# Altium footprint library 2019-04-02_13-31-29.PcbLib: 3 footprints
Each footprint in its own frame and in the unit in brackets; x right, y up, seen from the top. Pads: shape width x height; smd on the part's side, far side on the other; paste and mask are expansions set on the pad; w line width, h text height; cw(c..) or ccw(c..) is an arc to the next point about the centre after c.
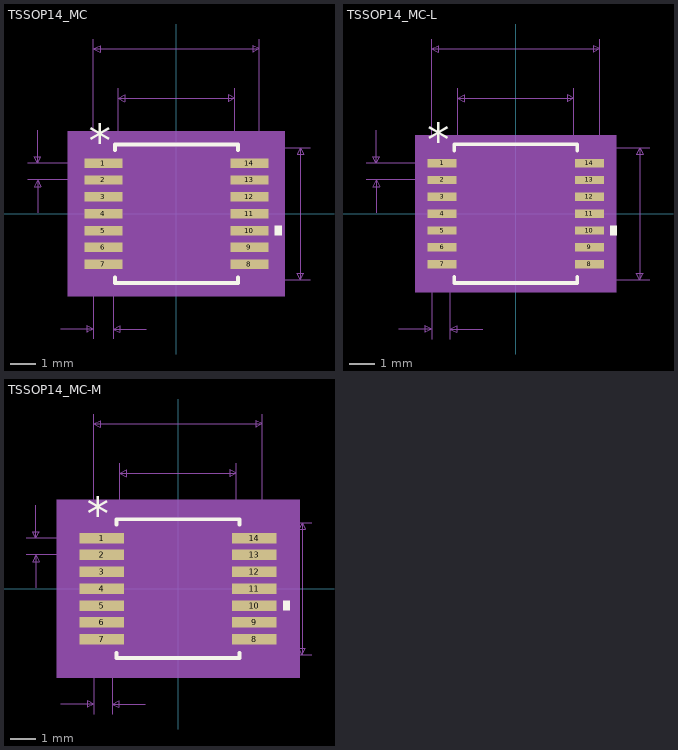
[diagram p0: the footprints below, top view; thin cyan lines are the x and y axes]

## TSSOP14_MC [mm]
pads (14):
  rect 1.462x0.365 smd paste+0 mask+0: 1(-2.819,1.95) 2(-2.819,1.3) 3(-2.819,0.65) 4(-2.819,0) 5(-2.819,-0.65) 6(-2.819,-1.3) 7(-2.819,-1.95) 8(2.819,-1.95) 9(2.819,-1.3) 10(2.819,-0.65) 11(2.819,0) 12(2.819,0.65) 13(2.819,1.3) 14(2.819,1.95)
Top Overlay:
  region: 3.804,-0.459 4.058,-0.459 4.058,-0.84 3.804,-0.84
  lines w0.152: -2.377,-2.465 -2.377,-2.677 2.377,-2.677 2.377,-2.465 ; -2.377,2.465 -2.377,2.677 2.377,2.677 2.377,2.465
  text "*" at -3.391,2.188 h1.27
Mechanical 5:
  region: 4.185,-3.185 -4.185,-3.185 -4.185,3.185 4.185,3.185
Mechanical 7:
  lines w0.025: -5.74,1.3 -2.819,1.3 ; -5.74,1.95 -2.819,1.95 ; -5.359,0.03 -5.359,1.3 ; -5.359,3.22 -5.359,1.95 ; -4.47,-4.455 -3.2,-4.455 ; -3.2,-4.836 -3.2,0 -3.2,6.741 ; -2.438,-4.836 -2.438,0 ; -2.25,0 -2.25,4.836 ; -1.168,-4.455 -2.438,-4.455 ; 0,-2.55 5.171,-2.55 ; 0,2.55 5.171,2.55 ; 2.25,0 2.25,4.836 ; 3.2,0 3.2,6.741 ; -5.359,1.3 -5.486,1.046 -5.232,1.046 -5.359,1.3 ; -5.359,1.95 -5.486,2.204 -5.232,2.204 -5.359,1.95 ; -3.2,-4.455 -3.454,-4.328 -3.454,-4.582 -3.2,-4.455 ; -3.2,6.36 3.2,6.36 ; -3.2,6.36 -2.946,6.487 -2.946,6.233 -3.2,6.36 ; -2.438,-4.455 -2.184,-4.328 -2.184,-4.582 -2.438,-4.455 ; -2.25,4.455 2.25,4.455 ; -2.25,4.455 -1.996,4.582 -1.996,4.328 -2.25,4.455 ; 2.25,4.455 1.996,4.582 1.996,4.328 2.25,4.455 ; 3.2,6.36 2.946,6.487 2.946,6.233 3.2,6.36 ; 4.79,-2.55 4.79,2.55 ; 4.79,-2.55 4.663,-2.296 4.917,-2.296 4.79,-2.55 ; 4.79,2.55 4.663,2.296 4.917,2.296 4.79,2.55
  text "Default Padstyle: r146_36" at -7.938,-7.63 h1.27
  text "Pin One Padstyle: r146_36" at -7.938,-9.154 h1.27
  text "Alt 1 Padstyle: b152_229h76" at -8.572,-13.726 h1.27
  text "Alt 2 Padstyle: b229_152h76" at -8.572,-15.25 h1.27
  text "0.177in/4.5mm" at -2.064,4.963 h0.64
  text "0.252in/6.4mm" at -2.064,6.868 h0.64
  text "0.201in/5.1mm" at 5.298,-0.318 h0.64
  text "0.026in/0.65mm" at -10.312,1.308 h0.64
  text "0.03in/0.762mm" at -5.042,-5.598 h0.64
Mechanical 13:
  lines w0: -0.305,2.55 ccw(c0,2.55) 0.305,2.55
  lines w0.025: -3.2,-2.102 -3.2,-1.798 -2.25,-1.798 -2.25,-2.102 -3.2,-2.102 ; -3.2,-1.452 -3.2,-1.148 -2.25,-1.148 -2.25,-1.452 -3.2,-1.452 ; -3.2,-0.802 -3.2,-0.498 -2.25,-0.498 -2.25,-0.802 -3.2,-0.802 ; -3.2,-0.152 -3.2,0.152 -2.25,0.152 -2.25,-0.152 -3.2,-0.152 ; -3.2,0.498 -3.2,0.802 -2.25,0.802 -2.25,0.498 -3.2,0.498 ; -3.2,1.148 -3.2,1.452 -2.25,1.452 -2.25,1.148 -3.2,1.148 ; -3.2,1.798 -3.2,2.102 -2.25,2.102 -2.25,1.798 -3.2,1.798 ; -2.25,-2.55 2.25,-2.55 2.25,2.55 -2.25,2.55 -2.25,-2.55 ; 2.25,-2.102 2.25,-1.798 3.2,-1.798 3.2,-2.102 2.25,-2.102 ; 2.25,-1.452 2.25,-1.148 3.2,-1.148 3.2,-1.452 2.25,-1.452 ; 2.25,-0.802 2.25,-0.498 3.2,-0.498 3.2,-0.802 2.25,-0.802 ; 2.25,-0.152 2.25,0.152 3.2,0.152 3.2,-0.152 2.25,-0.152 ; 2.25,0.498 2.25,0.802 3.2,0.802 3.2,0.498 2.25,0.498 ; 2.25,1.148 2.25,1.452 3.2,1.452 3.2,1.148 2.25,1.148 ; 2.25,1.798 2.25,2.102 3.2,2.102 3.2,1.798 2.25,1.798
  text "*" at -2.187,1.204 h1.27
Mechanical 15:
  region: -2.504,-2.386 -3.804,-2.386 -3.804,2.386 -2.504,2.386 -2.504,2.804 2.504,2.804 2.504,2.386 3.804,2.386 3.804,-2.386 2.504,-2.386 2.504,-2.804 -2.504,-2.804
  lines w0.152: -3.804,-2.386 -3.804,2.386 -2.504,2.386 -2.504,2.804 2.504,2.804 2.504,2.386 3.804,2.386 3.804,-2.386 2.504,-2.386 2.504,-2.804 -2.504,-2.804 -2.504,-2.386 -3.804,-2.386
3D body: height 0.25, standoff 0, extent 0,0 0.254,0.254

## TSSOP14_MC-L [mm]
pads (14):
  rect 1.111x0.325 smd: 1(-2.846,1.951) 2(-2.846,1.3) 3(-2.846,0.65) 4(-2.846,0) 5(-2.846,-0.65) 6(-2.846,-1.3) 7(-2.846,-1.951) 8(2.846,-1.951) 9(2.846,-1.3) 10(2.846,-0.65) 11(2.846,0) 12(2.846,0.65) 13(2.846,1.3) 14(2.846,1.951)
Top Overlay:
  region: 3.655,-0.46 3.909,-0.46 3.909,-0.841 3.655,-0.841
  lines w0.152: -2.375,-2.446 -2.375,-2.68 2.375,-2.68 2.375,-2.446 ; -2.375,2.446 -2.375,2.68 2.375,2.68 2.375,2.446
  text "*" at -3.417,2.24 h1.27
Mechanical 5:
  region: 3.884,-3.035 -3.884,-3.035 -3.884,3.035 3.884,3.035
Mechanical 7:
  lines w0.025: -5.767,1.3 -2.846,1.3 ; -5.767,1.951 -2.846,1.951 ; -5.386,0.03 -5.386,1.3 ; -5.386,3.221 -5.386,1.951 ; -4.521,-4.458 -3.251,-4.458 ; -3.251,-4.839 -3.251,0 -3.251,6.744 ; -2.54,-4.839 -2.54,0 ; -2.248,0 -2.248,4.839 ; -1.27,-4.458 -2.54,-4.458 ; 0,-2.553 5.169,-2.553 ; 0,2.553 5.169,2.553 ; 2.248,0 2.248,4.839 ; 3.251,0 3.251,6.744 ; -5.386,1.3 -5.513,1.046 -5.259,1.046 -5.386,1.3 ; -5.386,1.951 -5.513,2.205 -5.259,2.205 -5.386,1.951 ; -3.251,-4.458 -3.505,-4.331 -3.505,-4.585 -3.251,-4.458 ; -3.251,6.363 3.251,6.363 ; -3.251,6.363 -2.997,6.49 -2.997,6.236 -3.251,6.363 ; -2.54,-4.458 -2.286,-4.331 -2.286,-4.585 -2.54,-4.458 ; -2.248,4.458 2.248,4.458 ; -2.248,4.458 -1.994,4.585 -1.994,4.331 -2.248,4.458 ; 2.248,4.458 1.994,4.585 1.994,4.331 2.248,4.458 ; 3.251,6.363 2.997,6.49 2.997,6.236 3.251,6.363 ; 4.788,-2.553 4.788,2.553 ; 4.788,-2.553 4.661,-2.299 4.915,-2.299 4.788,-2.553 ; 4.788,2.553 4.661,2.299 4.915,2.299 4.788,2.553
  text "Default Padstyle: r111_32" at -7.938,-7.633 h1.27
  text "0.177in/4.496mm" at -2.381,4.966 h0.64
  text "0.256in/6.502mm" at -2.381,6.871 h0.64
  text "0.201in/5.105mm" at 5.296,-0.318 h0.64
  text "0.026in/0.65mm" at -10.339,1.308 h0.64
  text "0.028in/0.711mm" at -5.277,-5.601 h0.64
Mechanical 13:
  lines w0: -0.305,2.553 ccw(c0,2.553) 0.305,2.553
  lines w0.025: -3.251,-2.103 -3.251,-1.798 -2.248,-1.798 -2.248,-2.103 -3.251,-2.103 ; -3.251,-1.453 -3.251,-1.148 -2.248,-1.148 -2.248,-1.453 -3.251,-1.453 ; -3.251,-0.803 -3.251,-0.498 -2.248,-0.498 -2.248,-0.803 -3.251,-0.803 ; -3.251,-0.152 -3.251,0.152 -2.248,0.152 -2.248,-0.152 -3.251,-0.152 ; -3.251,0.498 -3.251,0.803 -2.248,0.803 -2.248,0.498 -3.251,0.498 ; -3.251,1.148 -3.251,1.453 -2.248,1.453 -2.248,1.148 -3.251,1.148 ; -3.251,1.798 -3.251,2.103 -2.248,2.103 -2.248,1.798 -3.251,1.798 ; -2.248,-2.553 -2.248,2.553 2.248,2.553 2.248,-2.553 -2.248,-2.553 ; 2.248,-2.103 2.248,-1.798 3.251,-1.798 3.251,-2.103 2.248,-2.103 ; 2.248,-1.453 2.248,-1.148 3.251,-1.148 3.251,-1.453 2.248,-1.453 ; 2.248,-0.803 2.248,-0.498 3.251,-0.498 3.251,-0.803 2.248,-0.803 ; 2.248,-0.152 2.248,0.152 3.251,0.152 3.251,-0.152 2.248,-0.152 ; 2.248,0.498 2.248,0.803 3.251,0.803 3.251,0.498 2.248,0.498 ; 2.248,1.148 2.248,1.453 3.251,1.453 3.251,1.148 2.248,1.148 ; 2.248,1.798 2.248,2.103 3.251,2.103 3.251,1.798 2.248,1.798
  text "*" at -2.311,1.605 h1.27
Mechanical 15:
  region: -2.349,-2.296 -3.503,-2.296 -3.503,2.296 -2.349,2.296 -2.349,2.654 2.349,2.654 2.349,2.296 3.503,2.296 3.503,-2.296 2.349,-2.296 2.349,-2.654 -2.349,-2.654
  lines w0.152: -3.503,-2.296 -3.503,2.296 -2.349,2.296 -2.349,2.654 2.349,2.654 2.349,2.296 3.503,2.296 3.503,-2.296 2.349,-2.296 2.349,-2.654 -2.349,-2.654 -2.349,-2.296 -3.503,-2.296
3D body: height 0.25, standoff 0, extent 0,0 0.254,0.254

## TSSOP14_MC-M [mm]
pads (14):
  rect 1.711x0.405 smd: 1(-2.946,1.951) 2(-2.946,1.3) 3(-2.946,0.65) 4(-2.946,0) 5(-2.946,-0.65) 6(-2.946,-1.3) 7(-2.946,-1.951) 8(2.946,-1.951) 9(2.946,-1.3) 10(2.946,-0.65) 11(2.946,0) 12(2.946,0.65) 13(2.946,1.3) 14(2.946,1.951)
Top Overlay:
  region: 4.055,-0.46 4.309,-0.46 4.309,-0.841 4.055,-0.841
  lines w0.152: -2.375,-2.486 -2.375,-2.68 2.375,-2.68 2.375,-2.486 ; -2.375,2.486 -2.375,2.68 2.375,2.68 2.375,2.486
  text "*" at -3.517,2.28 h1.27
Mechanical 5:
  region: 4.69,-3.442 -4.69,-3.442 -4.69,3.442 4.69,3.442
Mechanical 7:
  lines w0.025: -5.867,1.3 -2.946,1.3 ; -5.867,1.951 -2.946,1.951 ; -5.486,0.03 -5.486,1.3 ; -5.486,3.221 -5.486,1.951 ; -4.521,-4.458 -3.251,-4.458 ; -3.251,-4.839 -3.251,0 -3.251,6.744 ; -2.54,-4.839 -2.54,0 ; -2.248,0 -2.248,4.839 ; -1.27,-4.458 -2.54,-4.458 ; 0,-2.553 5.169,-2.553 ; 0,2.553 5.169,2.553 ; 2.248,0 2.248,4.839 ; 3.251,0 3.251,6.744 ; -5.486,1.3 -5.613,1.046 -5.359,1.046 -5.486,1.3 ; -5.486,1.951 -5.613,2.205 -5.359,2.205 -5.486,1.951 ; -3.251,-4.458 -3.505,-4.331 -3.505,-4.585 -3.251,-4.458 ; -3.251,6.363 3.251,6.363 ; -3.251,6.363 -2.997,6.49 -2.997,6.236 -3.251,6.363 ; -2.54,-4.458 -2.286,-4.331 -2.286,-4.585 -2.54,-4.458 ; -2.248,4.458 2.248,4.458 ; -2.248,4.458 -1.994,4.585 -1.994,4.331 -2.248,4.458 ; 2.248,4.458 1.994,4.585 1.994,4.331 2.248,4.458 ; 3.251,6.363 2.997,6.49 2.997,6.236 3.251,6.363 ; 4.788,-2.553 4.788,2.553 ; 4.788,-2.553 4.661,-2.299 4.915,-2.299 4.788,-2.553 ; 4.788,2.553 4.661,2.299 4.915,2.299 4.788,2.553
  text "Default Padstyle: r171_40" at -7.938,-7.633 h1.27
  text "0.177in/4.496mm" at -2.381,4.966 h0.64
  text "0.256in/6.502mm" at -2.381,6.871 h0.64
  text "0.201in/5.105mm" at 5.296,-0.318 h0.64
  text "0.026in/0.65mm" at -10.439,1.308 h0.64
  text "0.028in/0.711mm" at -5.277,-5.601 h0.64
Mechanical 13:
  lines w0: -0.305,2.553 ccw(c0,2.553) 0.305,2.553
  lines w0.025: -3.251,-2.103 -3.251,-1.798 -2.248,-1.798 -2.248,-2.103 -3.251,-2.103 ; -3.251,-1.453 -3.251,-1.148 -2.248,-1.148 -2.248,-1.453 -3.251,-1.453 ; -3.251,-0.803 -3.251,-0.498 -2.248,-0.498 -2.248,-0.803 -3.251,-0.803 ; -3.251,-0.152 -3.251,0.152 -2.248,0.152 -2.248,-0.152 -3.251,-0.152 ; -3.251,0.498 -3.251,0.803 -2.248,0.803 -2.248,0.498 -3.251,0.498 ; -3.251,1.148 -3.251,1.453 -2.248,1.453 -2.248,1.148 -3.251,1.148 ; -3.251,1.798 -3.251,2.103 -2.248,2.103 -2.248,1.798 -3.251,1.798 ; -2.248,-2.553 -2.248,2.553 2.248,2.553 2.248,-2.553 -2.248,-2.553 ; 2.248,-2.103 2.248,-1.798 3.251,-1.798 3.251,-2.103 2.248,-2.103 ; 2.248,-1.453 2.248,-1.148 3.251,-1.148 3.251,-1.453 2.248,-1.453 ; 2.248,-0.803 2.248,-0.498 3.251,-0.498 3.251,-0.803 2.248,-0.803 ; 2.248,-0.152 2.248,0.152 3.251,0.152 3.251,-0.152 2.248,-0.152 ; 2.248,0.498 2.248,0.803 3.251,0.803 3.251,0.498 2.248,0.498 ; 2.248,1.148 2.248,1.453 3.251,1.453 3.251,1.148 2.248,1.148 ; 2.248,1.798 2.248,2.103 3.251,2.103 3.251,1.798 2.248,1.798
  text "*" at -2.311,1.645 h1.27
Mechanical 15:
  region: -2.756,-2.377 -4.309,-2.377 -4.309,2.377 -2.756,2.377 -2.756,3.061 2.756,3.061 2.756,2.377 4.309,2.377 4.309,-2.377 2.756,-2.377 2.756,-3.061 -2.756,-3.061
  lines w0.152: -4.309,-2.377 -4.309,2.377 -2.756,2.377 -2.756,3.061 2.756,3.061 2.756,2.377 4.309,2.377 4.309,-2.377 2.756,-2.377 2.756,-3.061 -2.756,-3.061 -2.756,-2.377 -4.309,-2.377
3D body: height 0.25, standoff 0, extent 0,0 0.254,0.254